# Altium schematic symbol library lib_JF.SchLib: 10 symbols
Pins are listed as number, name and electrical type; pins without a type are passive.

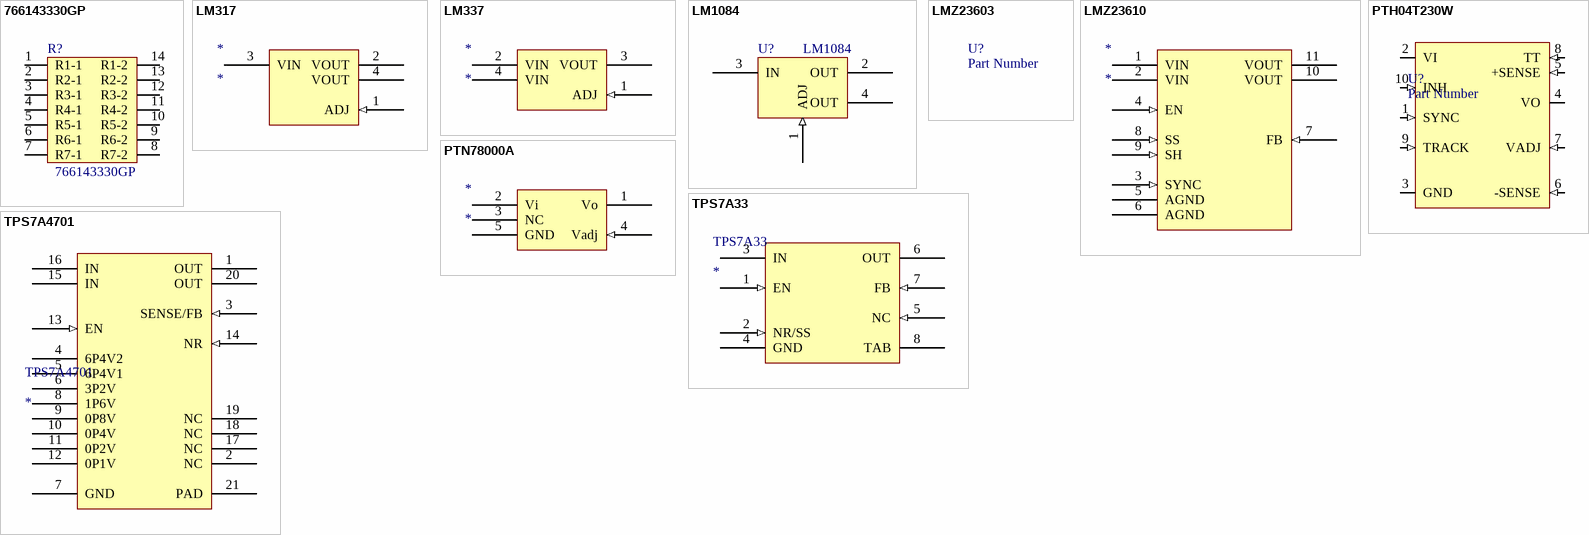
[diagram p0: symbols 766143330GP to TPS7A4701]

## 766143330GP
designator R?
Value: 33R; Tolerance: 2%
footprint 14-SOIC
pins: 1 R1-1, 2 R2-1, 3 R3-1, 4 R4-1, 5 R5-1, 6 R6-1, 7 R7-1, 8 R7-2, 9 R6-2, 10 R5-2, 11 R4-2, 12 R3-2, 13 R2-2, 14 R1-2

## LM317
designator *
pins: 1 ADJ (in), 2 VOUT (power), 3 VIN (power), 4 VOUT (power)

## LM337
designator *
pins: 1 ADJ (in), 2 VIN (power), 3 VOUT (power), 4 VIN (power)

## LM1084
designator U?
footprint DPAK-3
pins: 1 ADJ (in), 2 OUT (power), 3 IN (power), 4 OUT (power)

## LMZ23603
designator U?, comment Part Number
XXX - Description - Package; GRAMS Lib Spec: 2.7

## LMZ23610
designator *
pins: 1 VIN (power), 2 VIN (power), 3 SYNC (in), 4 EN (in), 5 AGND (power), 6 AGND (power), 7 FB (in), 8 SS (in), 9 SH (in), 10 VOUT (power), 11 VOUT (power)

## PTH04T230W
designator U?, comment Part Number
XXX - Description - Package; GRAMS Lib Spec: 2.7
pins: 1 SYNC (in), 2 VI (power), 3 GND (power), 4 VO (power), 5 +SENSE (in), 6 -SENSE (in), 7 VADJ (in), 8 TT (in), 9 TRACK (in), 10 INH (in)

## PTN78000A
designator *
pins: 1 Vo (power), 2 Vi (power), 3 NC, 4 Vadj (in), 5 GND (power)

## TPS7A33
designator TPS7A33
pins: 1 EN (in), 2 NR/SS (in), 3 IN (power), 4 GND (power), 5 NC (in), 6 OUT (power), 7 FB (in), 8 TAB (power)

## TPS7A4701
designator TPS7A4701
pins: 1 OUT (power), 2 NC, 3 SENSE/FB (in), 4 6P4V2 (power), 5 6P4V1 (power), 6 3P2V (power), 7 GND (power), 8 1P6V (power), 9 0P8V (power), 10 0P4V (power), 11 0P2V (power), 12 0P1V (power), 13 EN (in), 14 NR (in), 15 IN (power), 16 IN (power), 17 NC, 18 NC, 19 NC, 20 OUT (power), 21 PAD (power)